# EAGLE library part LP2986AIMM (library LP2986AIMM)
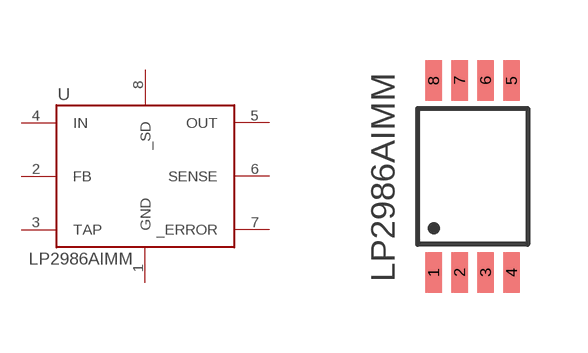
[diagram p0: symbol with the pads of LP2986AIMM; footprint LP2986AIMM]

Designator prefix -

## LP2986AIMMMUA08A  [LP2986AIMM]
1  GND
2  FB
3  TAP
4  IN
5  OUT
6  SENSE
7  _ERROR
8  _SD

## Footprint LP2986AIMM (pad centres in mm)
smd 0.41 x 1.02: 1 0,0; 2 0.65,0; 3 1.3,0; 4 1.95,0; 5 1.95,4.8; 6 1.3,4.8; 7 0.65,4.8; 8 0,4.8